# Altium footprint library KEYSTONE_632.PcbLib: 1 footprints
Each footprint in its own frame and in the unit in brackets; x right, y up, seen from the top. Pads: shape width x height; smd on the part's side, far side on the other; paste and mask are expansions set on the pad; w line width, h text height; cw(c..) or ccw(c..) is an arc to the next point about the centre after c.
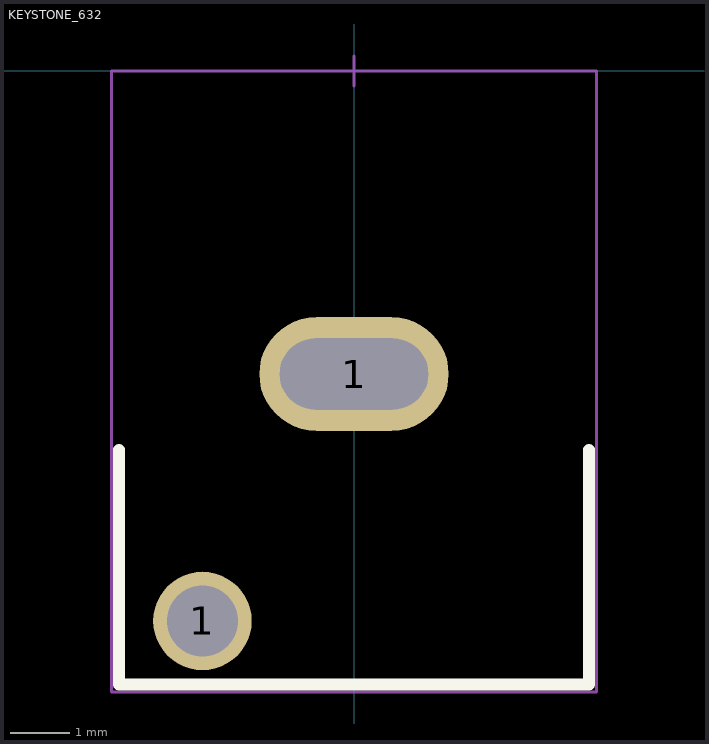
[diagram p0: the footprint, top view; thin cyan lines are the x and y axes]

## KEYSTONE_632 [mil]
pads (2):
  round 65 hole 47: 1(-100,-363)
  oval 125x75 hole 47 slot 98 at 0 deg: 1(0,-200)
Top Overlay:
  lines w7.87: -155,-250 -155,-405 155,-405 155,-250
Mechanical 15:
  lines w1.97: 0,-10 0,10 ; -160,-410 160,-410 160,0 -160,0 -160,-410
3D body "keystone-PN632.STEP": height 340, standoff -119.71, extent -150,-379 150,0